# Altium footprint library PcbLib2.PcbLib: 5 footprints
Each footprint in its own frame and in the unit in brackets; x right, y up, seen from the top. Pads: shape width x height; smd on the part's side, far side on the other; paste and mask are expansions set on the pad; w line width, h text height; cw(c..) or ccw(c..) is an arc to the next point about the centre after c.
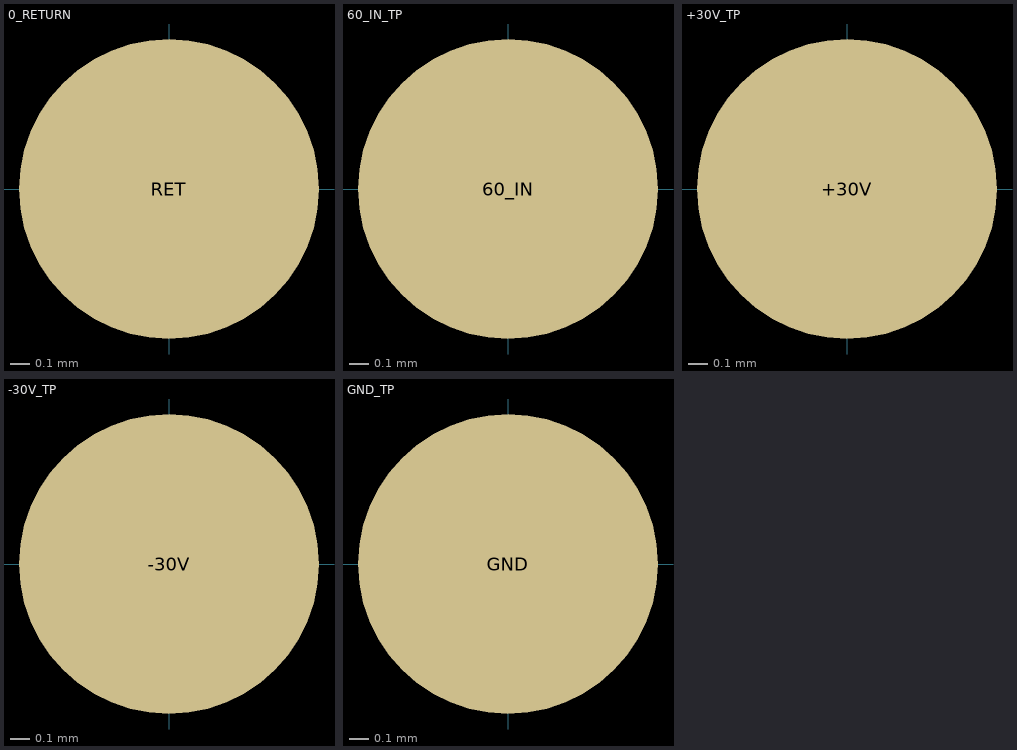
[diagram p0: the footprints below, top view; thin cyan lines are the x and y axes]

## 0_RETURN [mil]
pads (1):
  round 60 smd: RET(0,0)

## 60_IN_TP [mil]
pads (1):
  round 60 smd: 60_IN(0,0)

## +30V_TP [mil]
pads (1):
  round 60 smd: +30V(0,0)

## -30V_TP [mil]
pads (1):
  round 60 smd: -30V(0,0)

## GND_TP [mil]
pads (1):
  round 60 smd: GND(0,0)